# EAGLE library part MTH-2- (library pswitch40)
E-Switch MTH pushbutton switch
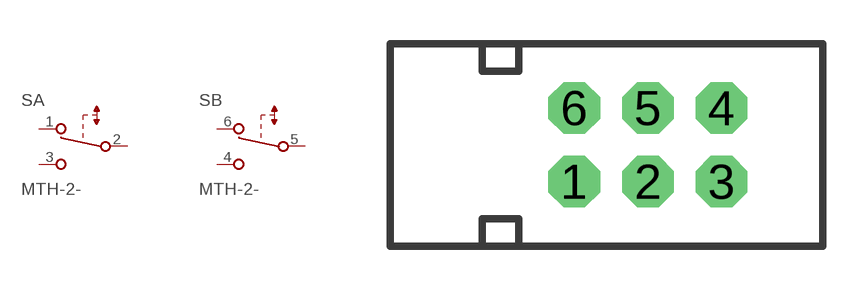
[diagram p4: symbol with the pads of MTH; footprint MTH]

Designator prefix S; gates A=SPDT B=SPDT

## MTH-2-2U  [MTH]
1  A:1  pas
2  A:2  pas
3  A:3  pas
4  B:3  pas
5  B:2  pas
6  B:1  pas

## Footprint MTH (pad centres in mm)
E-Switch MTH Series Pushbutton
drill 0.813 pad 1.778 octagon: 1 -2.54,-1.27; 2 0,-1.27; 3 2.54,-1.27; 4 2.54,1.27; 5 0,1.27; 6 -2.54,1.27